# Altium footprint library J 接插件.PcbLib: 458 footprints (part 11 of 29)
Each footprint in its own frame and in the unit in brackets; x right, y up, seen from the top. Pads: shape width x height; smd on the part's side, far side on the other; paste and mask are expansions set on the pad; w line width, h text height; cw(c..) or ccw(c..) is an arc to the next point about the centre after c.
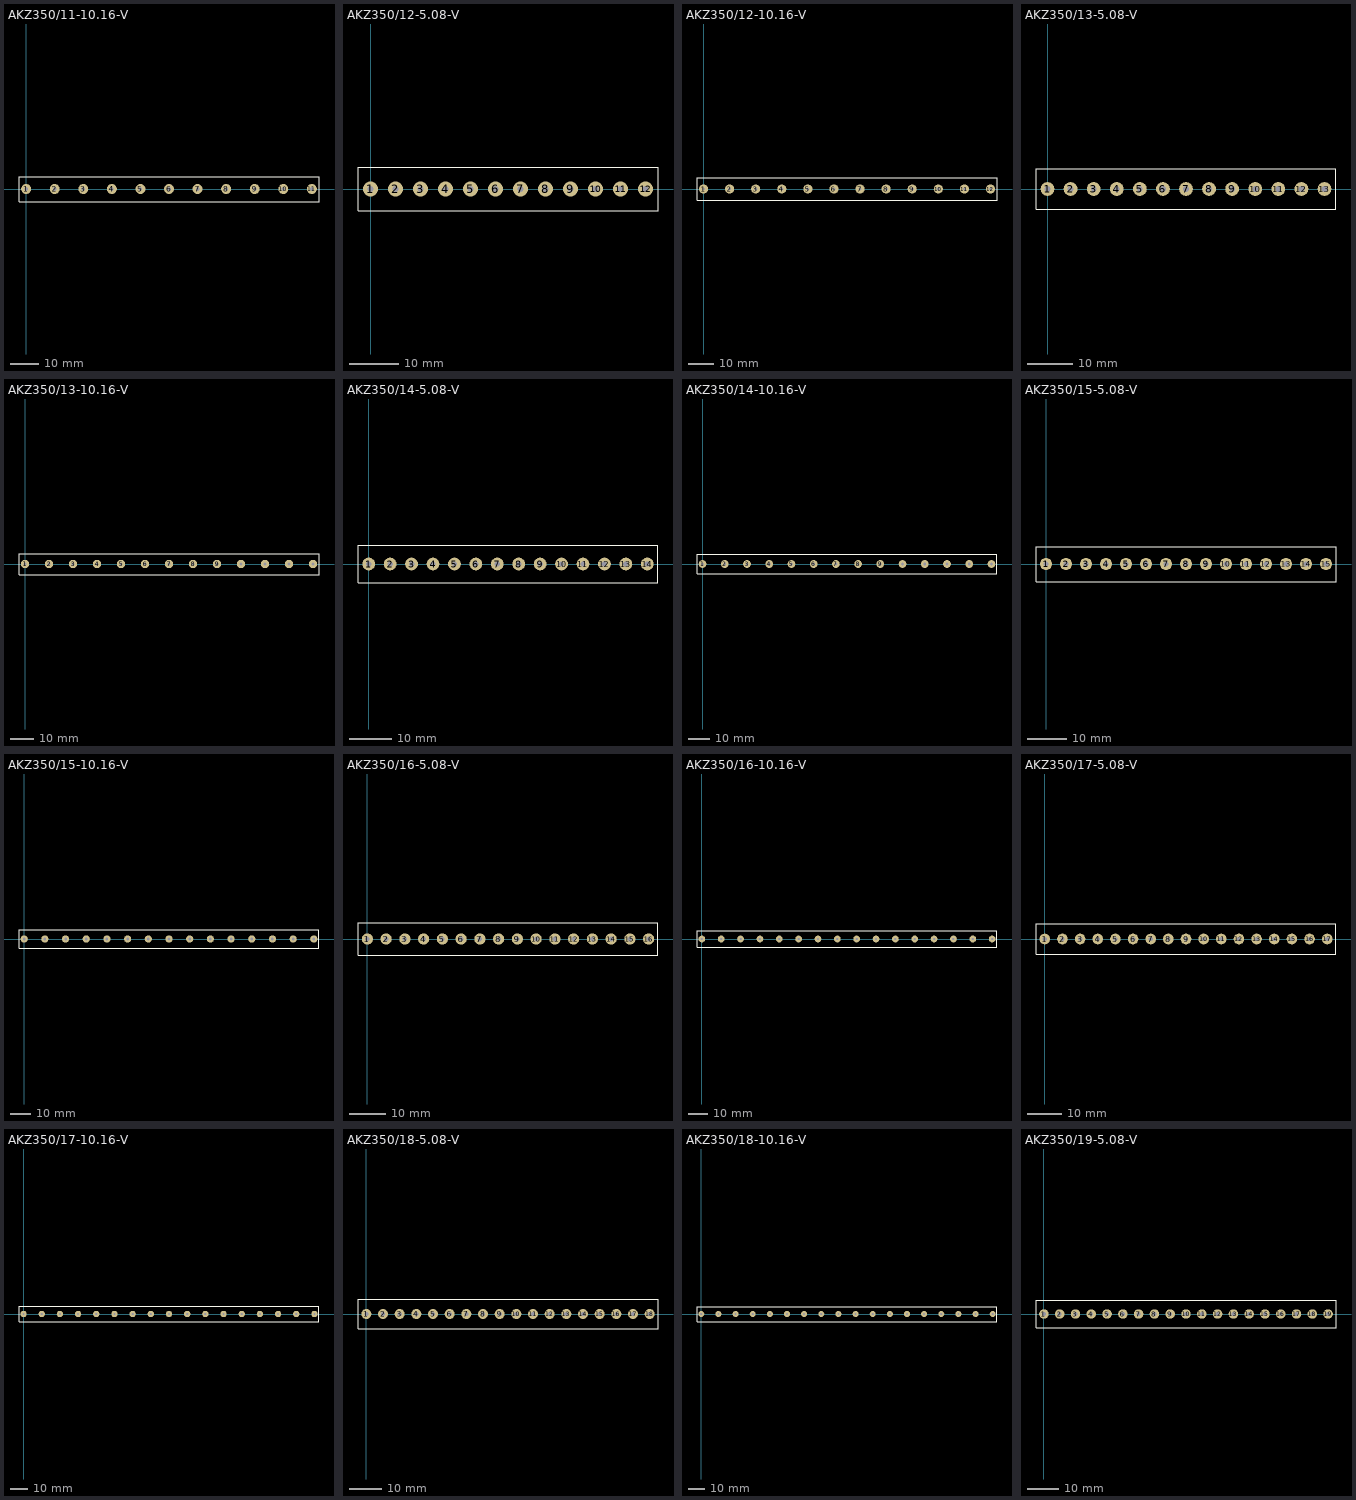
[diagram p10: the footprints below, top view; thin cyan lines are the x and y axes]

## AKZ350/11-10.16-V [mil] "美卡诺 AKZ350 接触件 间距：10.16   11Pin"
height 531.5
pads (11):
  round 140 hole 50: 1(0,0) 2(400,0) 3(800,0) 4(1200,0) 5(1600,0) 6(2000,0) 7(2400,0) 8(2800,0) 9(3200,0) 10(3600,0) 11(4000,0)
Top Overlay:
  lines w10: -100,-175 -100,175 4100,175 4100,-175 -100,-175

## AKZ350/12-5.08-V [mil] "美卡诺 AKZ350 接触件 间距：5.08   12Pin"
height 531.5
pads (12):
  round 120 hole 50: 1(0,0) 2(200,0) 3(400,0) 4(600,0) 5(800,0) 6(1000,0) 7(1200,0) 8(1400,0) 9(1600,0) 10(1800,0) 11(2000,0) 12(2200,0)
Top Overlay:
  lines w10: -100,-175 -100,175 2300,175 2300,-175 -100,-175

## AKZ350/12-10.16-V [mil] "美卡诺 AKZ350 接触件 间距：10.16   12Pin"
height 531.5
pads (12):
  round 140 hole 50: 1(0,0) 2(400,0) 3(800,0) 4(1200,0) 5(1600,0) 6(2000,0) 7(2400,0) 8(2800,0) 9(3200,0) 10(3600,0) 11(4000,0) 12(4400,0)
Top Overlay:
  lines w10: -100,-175 -100,175 4500,175 4500,-175 -100,-175

## AKZ350/13-5.08-V [mil] "美卡诺 AKZ350 接触件 间距：5.08   13Pin"
height 531.5
pads (13):
  round 120 hole 50: 1(0,0) 2(200,0) 3(400,0) 4(600,0) 5(800,0) 6(1000,0) 7(1200,0) 8(1400,0) 9(1600,0) 10(1800,0) 11(2000,0) 12(2200,0) 13(2400,0)
Top Overlay:
  lines w10: -100,-175 -100,175 2500,175 2500,-175 -100,-175

## AKZ350/13-10.16-V [mil] "美卡诺 AKZ350 接触件 间距：10.16   13Pin"
height 531.5
pads (13):
  round 140 hole 50: 1(0,0) 2(400,0) 3(800,0) 4(1200,0) 5(1600,0) 6(2000,0) 7(2400,0) 8(2800,0) 9(3200,0) 10(3600,0) 11(4000,0) 12(4400,0) 13(4800,0)
Top Overlay:
  lines w10: -100,-175 -100,175 4900,175 4900,-175 -100,-175

## AKZ350/14-5.08-V [mil] "美卡诺 AKZ350 接触件 间距：5.08   14Pin"
height 531.5
pads (14):
  round 120 hole 50: 1(0,0) 2(200,0) 3(400,0) 4(600,0) 5(800,0) 6(1000,0) 7(1200,0) 8(1400,0) 9(1600,0) 10(1800,0) 11(2000,0) 12(2200,0) 13(2400,0) 14(2600,0)
Top Overlay:
  lines w10: -100,-175 -100,175 2700,175 2700,-175 -100,-175

## AKZ350/14-10.16-V [mil] "美卡诺 AKZ350 接触件 间距：10.16   14Pin"
height 531.5
pads (14):
  round 140 hole 50: 1(0,0) 2(400,0) 3(800,0) 4(1200,0) 5(1600,0) 6(2000,0) 7(2400,0) 8(2800,0) 9(3200,0) 10(3600,0) 11(4000,0) 12(4400,0) 13(4800,0) 14(5200,0)
Top Overlay:
  lines w10: -100,-175 -100,175 5300,175 5300,-175 -100,-175

## AKZ350/15-5.08-V [mil] "美卡诺 AKZ350 接触件 间距：5.08   15Pin"
height 531.5
pads (15):
  round 120 hole 50: 1(0,0) 2(200,0) 3(400,0) 4(600,0) 5(800,0) 6(1000,0) 7(1200,0) 8(1400,0) 9(1600,0) 10(1800,0) 11(2000,0) 12(2200,0) 13(2400,0) 14(2600,0) 15(2800,0)
Top Overlay:
  lines w10: -100,-175 2900,-175 2900,175 -100,175 -100,-175

## AKZ350/15-10.16-V [mil] "美卡诺 AKZ350 接触件 间距：10.16   15Pin"
height 531.5
pads (15):
  round 140 hole 50: 1(0,0) 2(400,0) 3(800,0) 4(1200,0) 5(1600,0) 6(2000,0) 7(2400,0) 8(2800,0) 9(3200,0) 10(3600,0) 11(4000,0) 12(4400,0) 13(4800,0) 14(5200,0) 15(5600,0)
Top Overlay:
  lines w10: -100,-175 5700,-175 5700,175 -100,175 -100,-175

## AKZ350/16-5.08-V [mil] "美卡诺 AKZ350 接触件 间距：5.08   16Pin"
height 531.5
pads (16):
  round 120 hole 50: 1(0,0) 2(200,0) 3(400,0) 4(600,0) 5(800,0) 6(1000,0) 7(1200,0) 8(1400,0) 9(1600,0) 10(1800,0) 11(2000,0) 12(2200,0) 13(2400,0) 14(2600,0) 15(2800,0) 16(3000,0)
Top Overlay:
  lines w10: -100,-175 -100,175 3100,175 3100,-175 -100,-175

## AKZ350/16-10.16-V [mil] "美卡诺 AKZ350 接触件 间距：10.16   16Pin"
height 531.5
pads (16):
  round 140 hole 50: 1(0,0) 2(400,0) 3(800,0) 4(1200,0) 5(1600,0) 6(2000,0) 7(2400,0) 8(2800,0) 9(3200,0) 10(3600,0) 11(4000,0) 12(4400,0) 13(4800,0) 14(5200,0) 15(5600,0) 16(6000,0)
Top Overlay:
  lines w10: -100,-175 6100,-175 6100,175 -100,175 -100,-175

## AKZ350/17-5.08-V [mil] "美卡诺 AKZ350 接触件 间距：5.08   17Pin"
height 531.5
pads (17):
  round 120 hole 50: 1(0,0) 2(200,0) 3(400,0) 4(600,0) 5(800,0) 6(1000,0) 7(1200,0) 8(1400,0) 9(1600,0) 10(1800,0) 11(2000,0) 12(2200,0) 13(2400,0) 14(2600,0) 15(2800,0) 16(3000,0) 17(3200,0)
Top Overlay:
  lines w10: -100,-175 -100,175 3300,175 3300,-175 -100,-175

## AKZ350/17-10.16-V [mil] "美卡诺 AKZ350 接触件 间距：10.16   17Pin"
height 531.5
pads (17):
  round 140 hole 50: 1(0,0) 2(400,0) 3(800,0) 4(1200,0) 5(1600,0) 6(2000,0) 7(2400,0) 8(2800,0) 9(3200,0) 10(3600,0) 11(4000,0) 12(4400,0) 13(4800,0) 14(5200,0) 15(5600,0) 16(6000,0) 17(6400,0)
Top Overlay:
  lines w10: -100,-175 -100,175 6500,175 6500,-175 -100,-175

## AKZ350/18-5.08-V [mil] "美卡诺 AKZ350 接触件 间距：5.08   18Pin"
height 531.5
pads (18):
  round 120 hole 50: 1(0,0) 2(200,0) 3(400,0) 4(600,0) 5(800,0) 6(1000,0) 7(1200,0) 8(1400,0) 9(1600,0) 10(1800,0) 11(2000,0) 12(2200,0) 13(2400,0) 14(2600,0) 15(2800,0) 16(3000,0) 17(3200,0) 18(3400,0)
Top Overlay:
  lines w10: -100,-175 3500,-175 3500,175 -100,175 -100,-175

## AKZ350/18-10.16-V [mil] "美卡诺 AKZ350 接触件 间距：10.16   18Pin"
height 531.5
pads (18):
  round 140 hole 50: 1(0,0) 2(400,0) 3(800,0) 4(1200,0) 5(1600,0) 6(2000,0) 7(2400,0) 8(2800,0) 9(3200,0) 10(3600,0) 11(4000,0) 12(4400,0) 13(4800,0) 14(5200,0) 15(5600,0) 16(6000,0) 17(6400,0) 18(6800,0)
Top Overlay:
  lines w10: -100,-175 -100,175 6900,175 6900,-175 -100,-175

## AKZ350/19-5.08-V [mil] "美卡诺 AKZ350 接触件 间距：5.08   19Pin"
height 531.5
pads (19):
  round 120 hole 50: 1(0,0) 2(200,0) 3(400,0) 4(600,0) 5(800,0) 6(1000,0) 7(1200,0) 8(1400,0) 9(1600,0) 10(1800,0) 11(2000,0) 12(2200,0) 13(2400,0) 14(2600,0) 15(2800,0) 16(3000,0) 17(3200,0) 18(3400,0) 19(3600,0)
Top Overlay:
  lines w10: -100,-175 3700,-175 3700,175 -100,175 -100,-175